# Altium footprint library 新通信板.PcbLib: 39 footprints (part 2 of 3)
Each footprint in its own frame and in the unit in brackets; x right, y up, seen from the top. Pads: shape width x height; smd on the part's side, far side on the other; paste and mask are expansions set on the pad; w line width, h text height; cw(c..) or ccw(c..) is an arc to the next point about the centre after c.
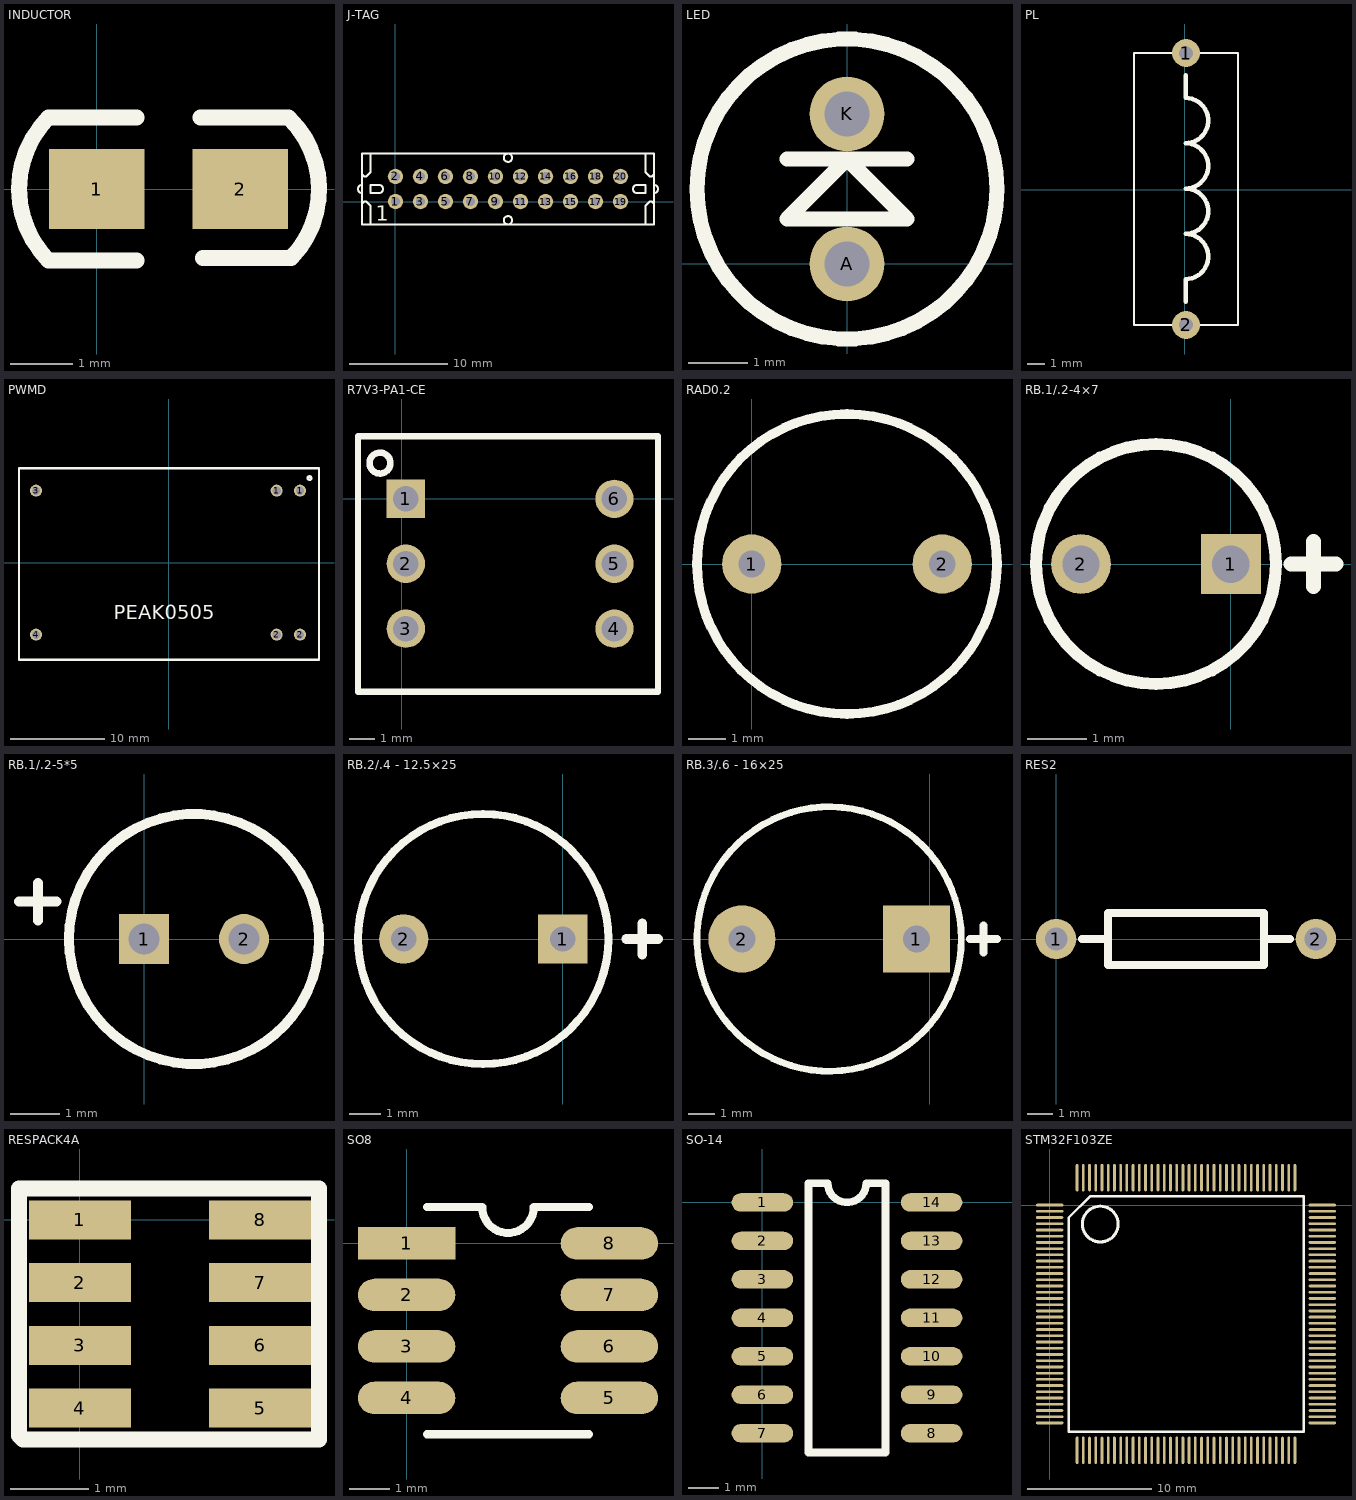
[diagram p1: the footprints below, top view; thin cyan lines are the x and y axes]

## INDUCTOR [mil]
pads (2):
  rect 60x50 smd: 1(0,0) 2(90,0)
Top Overlay:
  lines w10: 25,-45 -30.32,-45 cw(c14.69,0) -30.32,45 25,45 ; 65,45 120.31,45 cw(c77.03,-0.02) 122.05,-43.31 66.73,-43.31

## J-TAG [mil]
pads (20):
  round 62 hole 35: 1(0,0) 2(0,100) 3(100,0) 4(100,100) 5(200,0) 6(200,100) 7(300,0) 8(300,100) 9(400,0) 10(400,100) 11(500,0) 12(500,100) 13(600,0) 14(600,100) 15(700,0) 16(700,100) 17(800,0) 18(800,100) 19(900,0) 20(900,100)
Top Overlay:
  circle w8: c450,-75 r16.67
  circle w8: c450,175 r16.67
  lines w8: -133.33,-8.33 -125,0 -116.67,0 -100,-16.67 -100,-91.67 ; -133.33,33.33 cw(c-133.33,50) -133.33,66.67 ; -133.33,108.33 -125,100 -116.67,100 -100,116.67 -100,191.67 ; 1000,-91.67 1000,-16.67 1016.67,0 1025,0 1033.33,-8.33 ; 1000,191.67 1000,116.67 1016.67,100 1025,100 1033.33,108.33 ; 1033.33,33.33 ccw(c1033.33,50) 1033.33,66.67 ; -133.33,-91.67 -133.33,191.67 1033.33,191.67 1033.33,-91.67 -133.33,-91.67 ; -100,33.33 -100,66.67 -66.67,66.67 cw(c-66.67,50) -66.67,33.33 -100,33.33 ; 966.67,33.33 cw(c966.67,50) 966.67,66.67 1000,66.67 1000,33.33 966.67,33.33
  text "1" at -79,-77 h60

## LED [mil]
pads (2):
  round 50 hole 30: A(0,0) K(0,100)
Top Overlay:
  circle w10: c0,50 r100
  lines w10: -40,70 40,70 ; -40,30 0,70 40,30 -40,30

## PL [mil]
height 118.11
pads (2):
  round 62 hole 30: 1(3,302) 2(3,-298)
Top Overlay:
  lines w3.94: -112,-298 -112,302 118,302 118,-298 -112,-298
  lines w10: 2,-247 2,-197 ccw(c2,-147) 2,-97 ; 2,253 2,203 cw(c2,153) 2,103 cw(c2,53) 2,3 ; 2,-97 ccw(c2,-47) 2,3 ; 2,-97 ccw(c2,-47) 2,3

## PWMD [mm]
height 5
pads (6):
  round 1.27 hole 0.889: 1(11.44,7.65) 1(13.91,7.65) 2(11.44,-7.59) 2(13.91,-7.59) 3(-14.03,7.65) 4(-14.03,-7.59)
Top Overlay:
  circle w0.254: c14.912,8.98 r0.178
  lines w0.254: -15.83,-10.26 -15.83,10.02 15.92,10.02 15.92,-10.26 -15.83,-10.26
  text "PEAK0505" at -5.8,-5.95 h1.52

## R7V3-PA1-CE [mm]
pads (6):
  rect 1.5x1.5 hole 1: 1(0.17,0)
  round 1.5 hole 1: 2(0.17,-2.54) 3(0.17,-5.08) 4(8.33,-5.08) 5(8.33,-2.54) 6(8.33,0)
Top Overlay:
  circle w0.254: c-0.841,1.397 r0.41
  lines w0.254: -1.702,-7.55 -1.702,2.45 10.033,2.45 10.033,-7.55 -1.442,-7.55 -1.702,-7.55

## RAD0.2 [mil]
pads (2):
  round 62 hole 28: 1(0,0) 2(200,0)
Top Overlay:
  circle w10: c100,0 r157.48

## RB.1/.2-4×7 [mil]
pads (2):
  rect 40x40 hole 25: 1(0,0)
  round 40 hole 25: 2(-100,0)
Top Overlay:
  circle w8: c-50,0 r80
  lines w10: 40,0 70,0 ; 55,-15 55,15

## RB.1/.2-5*5 [mil]
pads (2):
  rect 40x40 hole 25: 1(0,0)
  round 40 hole 25: 2(80,0)
Top Overlay:
  circle w8: c40,0 r100
  lines w8: -100,30 -70,30 ; -85,15 -85,45

## RB.2/.4 - 12.5×25 [mil]
pads (2):
  rect 62x62 hole 32: 1(0,0)
  round 62 hole 32: 2(-200,0)
Top Overlay:
  circle w10: c-100,0 r157.48
  lines w12: 80,0 120,0 ; 100,-20 100,20

## RB.3/.6 - 16×25 [mil]
pads (2):
  rect 100x100 hole 40: 1(-20,0)
  round 100 hole 40: 2(-280,0)
Top Overlay:
  circle w10: c-150,0 r196.85
  lines w12: 60,0 100,0 ; 80,-20 80,20

## RES2 [mil]
pads (2):
  round 62 hole 35: 1(0,0) 2(400,0)
Top Overlay:
  lines w12: 40,0 80,0 ; 320,0 360,0 ; 80,-40 80,40 320,40 320,-40 80,-40

## RESPACK4A [mm]
pads (8):
  rect 1.3x0.5 smd: 1(0,0) 2(0,-0.8) 3(0,-1.6) 4(0,-2.4) 5(2.3,-2.4) 6(2.3,-1.6) 7(2.3,-0.8) 8(2.3,0)
Top Overlay:
  lines w0.203: -0.775,-2.75 -0.775,0.4 3.05,0.4 3.05,-2.8 -0.725,-2.8 -0.775,-2.75

## SO8 [mm]
pads (8):
  rect 2.4x0.8 smd: 1(0,0)
  oval 2.4x0.8 smd: 2(0,-1.27) 3(0,-2.54) 4(0,-3.81) 5(5,-3.81) 6(5,-2.54) 7(5,-1.27) 8(5,0)
Top Overlay:
  lines w0.2: 0.5,-4.705 4.5,-4.705 ; 0.5,0.895 1.865,0.895 ccw(c2.5,0.895) 3.135,0.895 4.5,0.895

## SO-14 [mil]
pads (14):
  oval 80x24 smd: 1(0,0) 2(0,-50) 3(0,-100) 4(0,-150) 5(0,-200) 6(0,-250) 7(0,-300) 8(220,-300) 9(220,-250) 10(220,-200) 11(220,-150) 12(220,-100) 13(220,-50) 14(220,0)
Top Overlay:
  lines w10: 60,-325 60,25 85,25 ccw(c110,25) 135,25 160,25 160,-325 60,-325

## STM32F103ZE [mm]
pads (144):
  oval 2.2x0.22 smd: 1(0,0) 2(0,-0.5) 3(0,-1) 4(0,-1.5) 5(0,-2) 6(0,-2.5) 7(0,-3) 8(0,-3.5) 9(0,-4) 10(0,-4.5) 11(0,-5) 12(0,-5.5) 13(0,-6) 14(0,-6.5) 15(0,-7) 16(0,-7.5) 17(0,-8) 18(0,-8.5) 19(0,-9) 20(0,-9.5) 21(0,-10) 22(0,-10.5) 23(0,-11) 24(0,-11.5) 25(0,-12) 26(0,-12.5) 27(0,-13) 28(0,-13.5) 29(0,-14) 30(0,-14.5) 31(0,-15) 32(0,-15.5) 33(0,-16) 34(0,-16.5) 35(0,-17) 36(0,-17.5) 73(21.9,-17.5) 74(21.9,-17) 75(21.9,-16.5) 76(21.9,-16) 77(21.9,-15.5) 78(21.9,-15) 79(21.9,-14.5) 80(21.9,-14) 81(21.9,-13.5) 82(21.9,-13) 83(21.9,-12.5) 84(21.9,-12) 85(21.9,-11.5) 86(21.9,-11) 87(21.9,-10.5) 88(21.9,-10) 89(21.9,-9.5) 90(21.9,-9) 91(21.9,-8.5) 92(21.9,-8) 93(21.9,-7.5) 94(21.9,-7) 95(21.9,-6.5) 96(21.9,-6) 97(21.9,-5.5) 98(21.9,-5) 99(21.9,-4.5) 100(21.9,-4) 101(21.9,-3.5) 102(21.9,-3) 103(21.9,-2.5) 104(21.9,-2) 105(21.9,-1.5) 106(21.9,-1) 107(21.9,-0.5) 108(21.9,0)
  oval 0.22x2.2 smd: 37(2.2,-19.7) 38(2.7,-19.7) 39(3.2,-19.7) 40(3.7,-19.7) 41(4.2,-19.7) 42(4.7,-19.7) 43(5.2,-19.7) 44(5.7,-19.7) 45(6.2,-19.7) 46(6.7,-19.7) 47(7.2,-19.7) 48(7.7,-19.7) 49(8.2,-19.7) 50(8.7,-19.7) 51(9.2,-19.7) 52(9.7,-19.7) 53(10.2,-19.7) 54(10.7,-19.7) 55(11.2,-19.7) 56(11.7,-19.7) 57(12.2,-19.7) 58(12.7,-19.7) 59(13.2,-19.7) 60(13.7,-19.7) 61(14.2,-19.7) 62(14.7,-19.7) 63(15.2,-19.7) 64(15.7,-19.7) 65(16.2,-19.7) 66(16.7,-19.7) 67(17.2,-19.7) 68(17.7,-19.7) 69(18.2,-19.7) 70(18.7,-19.7) 71(19.2,-19.7) 72(19.7,-19.7) 109(19.7,2.2) 110(19.2,2.2) 111(18.7,2.2) 112(18.2,2.2) 113(17.7,2.2) 114(17.2,2.2) 115(16.7,2.2) 116(16.2,2.2) 117(15.7,2.2) 118(15.2,2.2) 119(14.7,2.2) 120(14.2,2.2) 121(13.7,2.2) 122(13.2,2.2) 123(12.7,2.2) 124(12.2,2.2) 125(11.7,2.2) 126(11.2,2.2) 127(10.7,2.2) 128(10.2,2.2) 129(9.7,2.2) 130(9.2,2.2) 131(8.7,2.2) 132(8.2,2.2) 133(7.7,2.2) 134(7.2,2.2) 135(6.7,2.2) 136(6.2,2.2) 137(5.7,2.2) 138(5.2,2.2) 139(4.7,2.2) 140(4.2,2.2) 141(3.7,2.2) 142(3.2,2.2) 143(2.7,2.2) 144(2.2,2.2)
Top Overlay:
  circle w0.254: c4.064,-1.524 r1.437
  lines w0.2: 1.524,-18.2 20.4,-18.2 20.4,0.7 3.24,0.7 1.524,-1.016 1.524,-1.524 1.524,-18.2